# EAGLE library part AT17LV512* (library 0-at17lv)
FPGA Configuration EEPROM Memory, 512Kbit
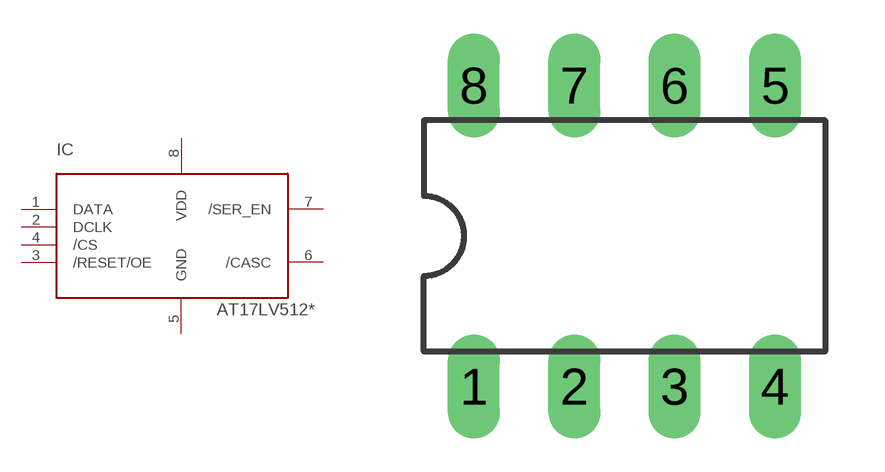
[diagram p0: symbol with the pads of DIL08; footprint DIL08]

Designator prefix IC

## AT17LV512A-10PU  [DIL08]
1  DATA
2  DCLK
3  /RESET/OE
4  /CS
5  GND
6  /CASC
7  /SER_EN
8  VDD

## Footprint DIL08 (pad centres in mm)
Dual In Line Package
drill 0.813 long: 1 -3.81,-3.81; 2 -1.27,-3.81; 3 1.27,-3.81; 4 3.81,-3.81; 5 3.81,3.81; 6 1.27,3.81; 7 -1.27,3.81; 8 -3.81,3.81